# EAGLE library part 7-SEG-AC_1 (library !7seg)
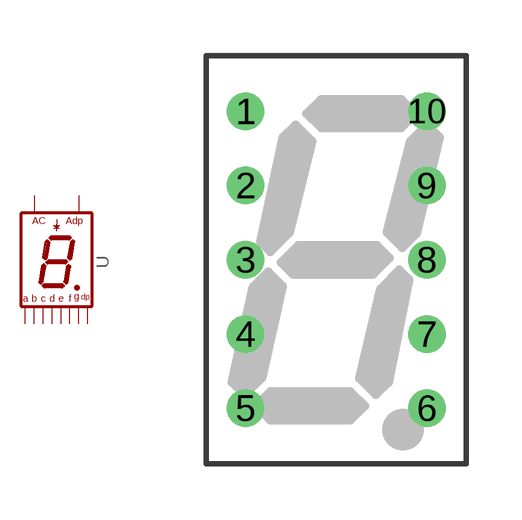
[diagram p2: symbol with the pads of OSL10326; footprint OSL10326]

Designator prefix -

## 7-SEG-AC_1  [OSL10326]
1  A
2  F
3  G
4  E
5  D
6  ADP  pas
7  DP
8  C
9  AC  pas
10  B

## Footprint OSL10326 (pad centres in mm)
Single Digit LED Numeric Display 10.16 mm Source: ROHM .. la-401dn.pdf
drill 0.5: 1 -2.44,4; 2 -2.44,2; 3 -2.44,0; 4 -2.44,-2; 5 -2.44,-4; 6 2.44,-4; 7 2.44,-2; 8 2.44,0; 9 2.44,2; 10 2.44,4